# EAGLE library part MT25QL01GBBB8ESF-0AAT (library NR_IC)
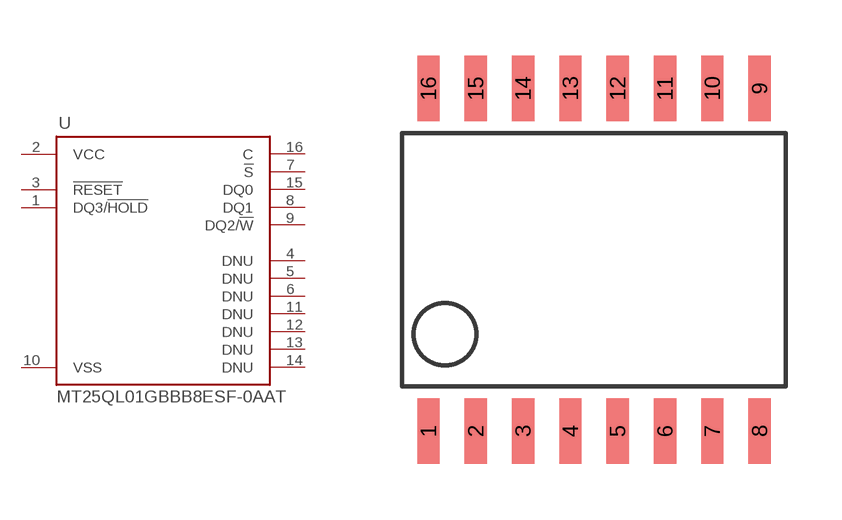
[diagram p7: symbol with the pads of SOP2-16; footprint SOP2-16]

Designator prefix U

## MT25QL01GBBB8ESF-0AAT  [SOP2-16]
1  DQ3/!HOLD!
2  VCC
3  !RESET!
4  DNU
5  DNU
6  DNU
7  !S!
8  DQ1
9  DQ2/!W!
10  VSS
11  DNU
12  DNU
13  DNU
14  DNU
15  DQ0
16  C

## Footprint SOP2-16 (pad centres in mm)
smd 0.6 x 1.75: 1 -4.445,-4.6; 2 -3.175,-4.6; 3 -1.905,-4.6; 4 -0.635,-4.6; 5 0.635,-4.6; 6 1.905,-4.6; 7 3.175,-4.6; 8 4.445,-4.6; 9 4.445,4.6; 10 3.175,4.6; 11 1.905,4.6; 12 0.635,4.6; 13 -0.635,4.6; 14 -1.905,4.6; 15 -3.175,4.6; 16 -4.445,4.6